# Altium schematic symbol library Capacitor_polar.SchLib: 1 symbol
Pins are listed as number, name and electrical type; pins without a type are passive.

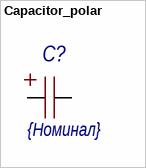
[diagram p0: symbol Capacitor_polar]

## Capacitor_polar
designator C?  value {Номинал}
pins: 1, 2